# Altium footprint library AUIR3314.PcbLib: 1 footprints
Each footprint in its own frame and in the unit in brackets; x right, y up, seen from the top. Pads: shape width x height; smd on the part's side, far side on the other; paste and mask are expansions set on the pad; w line width, h text height; cw(c..) or ccw(c..) is an arc to the next point about the centre after c.
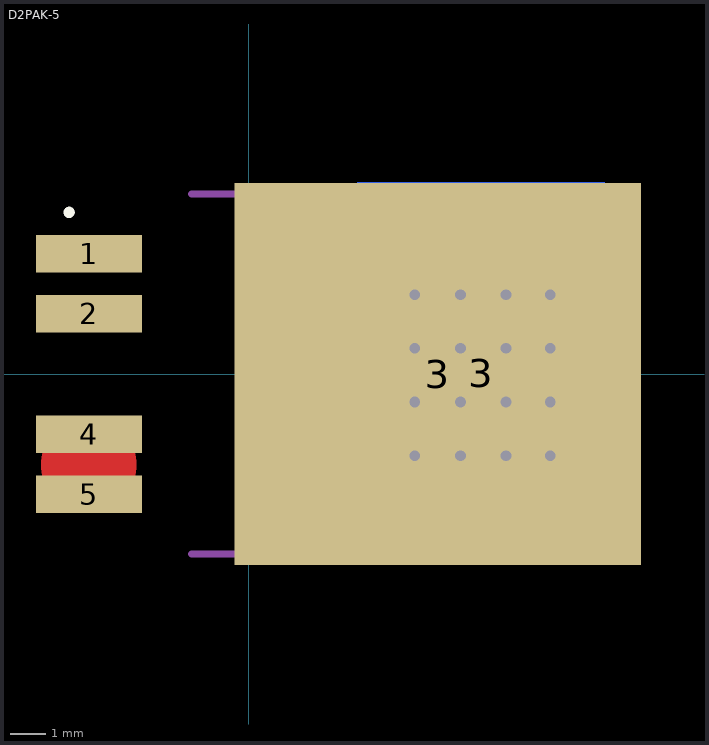
[diagram p0: the footprint, top view; thin cyan lines are the x and y axes]

## D2PAK-5 [mil]
pads (6):
  rect 118.11x42 smd: 1(-178,134) 2(-178,67) 4(-178,-67) 5(-178,-134)
  rect 452.76x425.2 smd: 3(210.63,0)
  rect 275.59x425.2 smd far side: 3(258.86,0.98)
via 335.63,-90.88 diameter 27.56 hole 11.81
via 335.63,-31.17 diameter 27.56 hole 11.81
via 335.63,28.54 diameter 27.56 hole 11.81
via 335.63,88.25 diameter 27.56 hole 11.81
via 286.42,88.25 diameter 27.56 hole 11.81
via 286.42,28.54 diameter 27.56 hole 11.81
via 286.42,-31.17 diameter 27.56 hole 11.81
via 286.42,-90.88 diameter 27.56 hole 11.81
via 235.73,88.25 diameter 27.56 hole 11.81
via 235.73,28.54 diameter 27.56 hole 11.81
via 235.73,-31.17 diameter 27.56 hole 11.81
via 235.73,-90.88 diameter 27.56 hole 11.81
via 185.04,88.25 diameter 27.56 hole 11.81
via 185.04,28.54 diameter 27.56 hole 11.81
via 185.04,-31.17 diameter 27.56 hole 11.81
via 185.04,-90.88 diameter 27.56 hole 11.81
Top Layer:
  lines w106.3: -178,-101.38 -178,-100.39
Top Overlay:
  circle w7.87: c-200,180 r2.36
Mechanical 4:
  region: -125.01,-114.99 -125.01,-153.26 -210.26,-153.26 -210.26,-114.99
  region: -125.04,-47.96 -125.04,-86.14 -210.14,-86.14 -210.14,-47.96
  region: -125.18,86.18 -125.18,47.86 -210.14,47.86 -210.14,86.18
  region: -125.08,153.08 -125.08,114.97 -210.03,114.97 -210.03,153.08
  region: -125.01,-114.99 -125.01,-153.26 -210.26,-153.26 -210.26,-114.99
  region: -125.04,-47.96 -125.04,-86.14 -210.14,-86.14 -210.14,-47.96
  region: -125.18,86.18 -125.18,47.86 -210.14,47.86 -210.14,86.18
  region: -125.08,153.08 -125.08,114.97 -210.03,114.97 -210.03,153.08
  region: 336.1,201 352.29,201 370.29,133 370.29,-133 352.29,-201 336.1,-201
  lines w8: -63.39,200.55 332.09,200.55 ; 332.09,-200.55 332.09,200.55 ; 332.09,-200.55 -63.39,-200.55 332.09,-200.55 ; 332.09,-200.55 332.09,200.55 ; 336.1,-200.98 336.1,200.98 ; 336.1,-200.98 352.28,-200.98 ; 336.1,-200.98 336.1,200.98 ; 336.1,-200.98 352.28,-200.98 ; 336.1,200.98 352.28,200.98 ; 336.1,200.98 352.28,200.98 ; 352.28,-200.98 370.28,-132.99 ; 352.28,-200.98 370.28,-132.99 ; 352.28,200.98 370.28,132.99 ; 352.28,200.98 370.28,132.99 ; 370.28,-132.99 370.28,132.99 ; 370.28,-132.99 370.28,132.99
3D body "D2PAK-5.stp": height 165.95, standoff 0, extent -220.89,-192.35 353.99,194.32